# Altium schematic symbol library CapOther.SchLib: 25 symbols
Pins are listed as number, name and electrical type; pins without a type are passive.

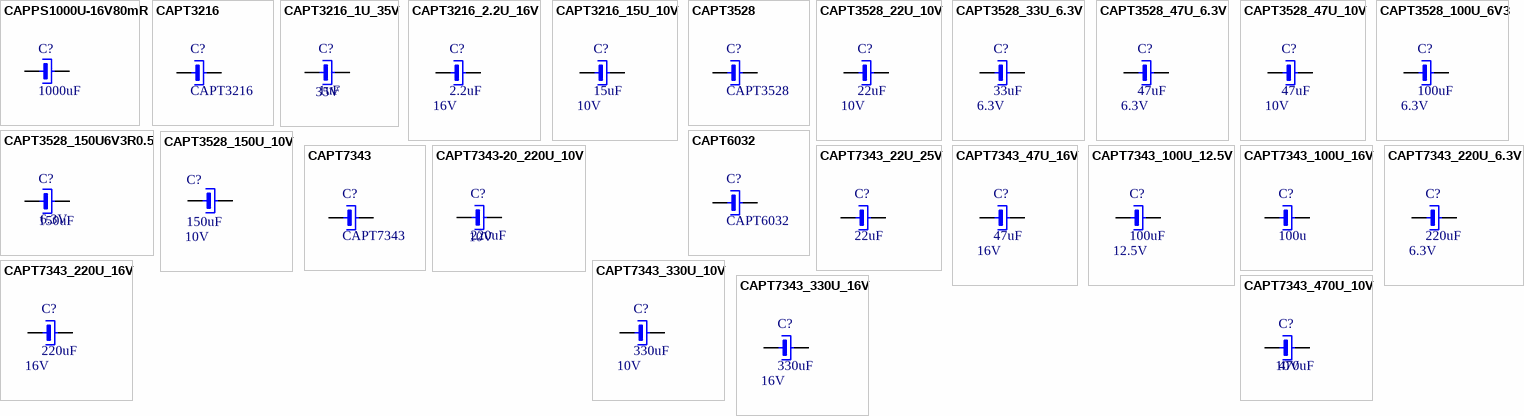
[diagram p0: symbols CAPPS1000U-16V80mR to CAPT7343_470U_10V]

## CAPPS1000U-16V80mR
designator C?, comment 1000uF
Capacitor electrolitic SMD 10x10x8mm 16V 80mR; Manufacturer: Panasonic; Manufacturer No: EEE-FT1C102AP; Tech: SMDR; Package: CAP pol SMT 10x10x12mm; Comment2: 16V 80mR; Supplier 1: Mouser; Supplier Part Number 1: 667-EEE-FT1C102AP; Supplier 2: Newark; Supplier Part Number 2: 73T9157; Supplier 3: Digi-Key; Supplier Part Number 3: P15087CT-ND
signal-integrity model Model Name (Model Description)
footprint CAPPS-D10X12.6 (Capacitor polarised SMD D10; 10.2x10.2x12.6mm)
pins: 1, 2

## CAPT3216
designator C?
Capacitor tantal smd 3216-18; Comment2: xxV; Sort: 220; Tech: SMDR; Package: Tant SMD A 3216-18; Price: 0
signal-integrity model Model Name (Model Description)
footprint CTC-A3216-18 (Capacitor tantal chip A - 3216, H=1.6mm)
pins: 1, 2

## CAPT3216_1U_35V
designator C?, comment 1uF  Voltage rating: 35V
Capacitor tantal smd 3216-18 35V 7.5Resr; Manufacturer: KEMET; Manufacturer No: T491A105K035AT; Tech: SMDR; Package: Tant SMD A 3216-18; Supplier 1: Digi-Key; Supplier Part Number 1: 399-8265-1-ND; Supplier 2: Mouser; Supplier Part Number 2: 80-T491A105K035; Supplier 3: Newark; Supplier Part Number 3: 57K1627
signal-integrity model Model Name (Model Description)
footprint CTC-A3216-18 (Capacitor tantal chip A - 3216, H=1.6mm)
pins: 1, 2

## CAPT3216_2.2U_16V
designator C?, comment 2.2uF  Voltage rating: 16V
Capacitor tantal smd 3216-18 16V 6.5Resr; Manufacturer: AVX; Manufacturer No: TAJA225K016R; Tech: SMDR; Package: Tant SMD A 3216-18; Supplier 1: Digi-Key; Supplier Part Number 1: 478-2353-1-ND; Supplier 2: Newark; Supplier Part Number 2: 57K1664; Supplier 3: Mouser; Supplier Part Number 3: 581-TAJA225K016
signal-integrity model Model Name (Model Description)
footprint CTC-A3216-18 (Capacitor tantal chip A - 3216, H=1.6mm)
pins: 1, 2

## CAPT3216_15U_10V
designator C?, comment 15uF  Voltage rating: 10V
Capacitor tantal smd 3216-18 10V 3.2Resr; Manufacturer: AVX; Manufacturer No: TAJA156K010R; Tech: SMDR; Package: Tant SMD A 3216-18; Supplier 1: Newark; Supplier Part Number 1: 57K1655; Supplier 2: Mouser; Supplier Part Number 2: 581-TAJA156K010R; Supplier 3: Digi-Key; Supplier Part Number 3: 478-1660-1-ND
signal-integrity model Model Name (Model Description)
footprint CTC-A3216-18 (Capacitor tantal chip A - 3216, H=1.6mm)
pins: 1, 2

## CAPT3528
designator C?
Capacitor tantal smd 3528-21; Comment2: xxV; Sort: 220; Tech: SMDR; Package: Tant SMD B 3528-21; Price: 0
signal-integrity model Model Name (Model Description)
footprint CTC-B3528-21 (Capacitor Tantal Chip B - 3528, H=1.9mm)
pins: 1, 2

## CAPT3528_22U_10V
designator C?, comment 22uF  Voltage rating: 10V
Capacitor tantal smd 3528-21 10V 0.3Resr; Manufacturer: AVX; Manufacturer No: TCJB226M010R0300; Tech: SMDR; Package: Tant SMD B 3528-21; Supplier 1: Newark; Supplier Part Number 1: 75M2909; Supplier 2: Mouser; Supplier Part Number 2: 581-TCJB226M10R300; Supplier 3: Digi-Key; Supplier Part Number 3: 478-3136-1-ND
signal-integrity model Model Name (Model Description)
footprint CTC-B3528-21 (Capacitor Tantal Chip B - 3528, H=1.9mm)
pins: 1, 2

## CAPT3528_33U_6.3V
designator C?, comment 33uF  Voltage rating: 6.3V
Capacitor tantal smd 3528-21 6.3V 40mResr; Manufacturer: Kemet; Manufacturer No: T520B336M006ATE040; Tech: SMDR; Package: Tant SMD B 3528-21; Supplier 1: Newark; Supplier Part Number 1: 94W4845; Supplier 2: Digi-Key; Supplier Part Number 2: 399-4017-1-ND; Supplier 3: Mouser; Supplier Part Number 3: 80-T520B336M6ATE40
signal-integrity model Model Name (Model Description)
footprint CTC-B3528-21
pins: 1, 2

## CAPT3528_47U_6.3V
designator C?, comment 47uF  Voltage rating: 6.3V
Capacitor tantal smd 3528-12 6.3V 70mResr; Manufacturer: Kemet; Manufacturer No: T520B476M006ATE070; Tech: SMDR; Package: Tant SMD B 3528-12; Supplier 1: Newark; Supplier Part Number 1: 12N2824; Supplier 2: Digi-Key; Supplier Part Number 2: 399-4024-1-ND; Supplier 3: Mouser; Supplier Part Number 3: 80-T520B476M006
signal-integrity model Model Name (Model Description)
footprint CTC-B3528-12 (Capacitor Tantal Chip B - 3528, H=1.2mm)
pins: 1, 2

## CAPT3528_47U_10V
designator C?, comment 47uF  Voltage rating: 10V
Capacitor tantal smd 3528-21 10V 1Resr; Manufacturer: Kemet; Manufacturer No: T491B476K010AT; Tech: SMDR; Package: Tant SMD B 3528-12; Supplier 1: Mouser; Supplier Part Number 1: 80-T491B476K010; Supplier 2: Digi-Key; Supplier Part Number 2: 399-9728-1-ND; Supplier 3: Newark; Supplier Part Number 3: 57K1819
signal-integrity model Model Name (Model Description)
footprint CTC-B3528-21 (Capacitor Tantal Chip B - 3528, H=1.9mm)
pins: 1, 2

## CAPT3528_100U_6V3
designator C?, comment 100uF  Voltage rating: 6.3V
Capacitor tantal smd 3528-21 6.3V 70mResr; Manufacturer: AVX; Manufacturer No: TCJB107M006R0070; Tech: SMDR; Package: Tant SMD B 3528-21; Supplier 1: Newark; Supplier Part Number 1: 59M9569; Supplier 2: Mouser; Supplier Part Number 2: 581-TCJB107M6R70; Supplier 3: Digi-Key; Supplier Part Number 3: 478-3130-1-ND
signal-integrity model Model Name (Model Description)
footprint CTC-B3528-21 (Capacitor Tantal Chip B - 3528, H=1.9mm)
pins: 1, 2

## CAPT3528_150U6V3R0.5
designator C?, comment 150uF  Voltage: 6.3V
Capacitor tantal smd 3528-21 6.3V 0.5R; Manufacturer: AVX; Manufacturer No: F930J157MBA; Comment2: 6.3V 0.5R  20%; Tech: SMDR; Package: Tant SMD B 3528-21; Supplier 1: Mouser; Supplier Part Number 1: 647-F930J157MBA; Supplier 2: Newark; Supplier Part Number 2: 54K5170; Supplier 3: Digi-Key; Supplier Part Number 3: 493-5741-1-ND
footprint CTC-B3528-21 (Capacitor Tantal Chip B - 3528, H=1.9mm)
pins: 1, 2

## CAPT3528_150U_10V
designator C?, comment 150uF  Voltage rating: 10V
Capacitor tantal smd 3528-21 10V 0.5Resr; Manufacturer: AVX; Manufacturer No: TLJB157M010R0500; Tech: SMDR; Package: Tant SMD B 3528-21; Supplier 1: Newark; Supplier Part Number 1: 59M9599; Supplier 2: Digi-Key; Supplier Part Number 2: 478-3349-1-ND; Supplier 3: Mouser; Supplier Part Number 3: 581-TLJB157M010R0500
signal-integrity model Model Name (Model Description)
footprint CTC-B3528-21 (Capacitor Tantal Chip B - 3528, H=1.9mm)
pins: 1, 2

## CAPT6032
designator C?
Capacitor tantal smd 6032-28; Tech: SMDR; Package: Tant SMD C 6032-28
signal-integrity model Model Name (Model Description)
footprint CTC-C6032-28 (Capacitor tantal chip C - 6032, H=2.8mm)
pins: 1, 2

## CAPT7343
designator C?
Capacitor tantal smd 7343-31; Tech: SMDR; Package: Tant SMD D 7343-31
signal-integrity model Model Name (Model Description)
footprint CTC-D7343-31 (Capacitor Tantal Chip D - 7343, H=2.8mm)
pins: 1, 2

## CAPT7343-20_220U_10V
designator C?, comment 220uF  Voltage rating: 10V
Capacitor tantal smd 7343-20 10V 25mResr; Manufacturer: AVX; Manufacturer No: TCJY227M010R0025; Tech: SMDR; Package: Tant SMD D 7343-20; Supplier 1: Mouser; Supplier Part Number 1: 581-TCJY227M010R0025; Supplier 2: Digi-Key; Supplier Part Number 2: 478-9504-1-ND
signal-integrity model Model Name (Model Description)
footprint CTC-D7343-20 (Capacitor Tantal Chip D - 7343, H=1.9mm)
pins: 1, 2

## CAPT7343_22U_25V
designator C?, comment 22uF
Capacitor tantal smd 7343-31 25V 0.1Resr; Manufacturer: AVX; Manufacturer No: TPSD226K025R0100; Tech: SMDR; Package: Tant SMD D 7343-31; Supplier 1: Mouser; Supplier Part Number 1: 581-TPSD226K025R0100; Supplier 2: Newark; Supplier Part Number 2: 65K3016; Supplier 3: Digi-Key; Supplier Part Number 3: 478-3331-1-ND; Voltage rating: 25V
signal-integrity model Model Name (Model Description)
footprint CTC-D7343-31 (Capacitor Tantal Chip D - 7343, H=2.8mm)
pins: 1, 2

## CAPT7343_47U_16V
designator C?, comment 47uF  Voltage: 16V
Capacitor tantal smd 7343-31 16V 0.8Resr; Manufacturer: AVX; Manufacturer No: TAJD476K016RNJ; Tech: SMDR; Package: Tant SMD D 7343-31; Supplier 1: Newark; Supplier Part Number 1: 60R6010; Supplier 2: Digi-Key; Supplier Part Number 2: 478-1739-1-ND; Supplier 3: Mouser; Supplier Part Number 3: 581-TAJD476K016
signal-integrity model Model Name (Model Description)
footprint CTC-D7343-31 (Capacitor Tantal Chip D - 7343, H=2.8mm)
pins: 1, 2

## CAPT7343_100U_12.5V
designator C?, comment 100uF  Voltage rating: 12.5V
Capacitor Aluminium Polymer, High Ripple, smd 7343-43 12.5V 12mResr; Manufacturer: Murata; Manufacturer No: ECASD91B107M012K00; Tech: SMDR; Package: Tant SMD D 7343-43; Supplier 1: Mouser; Supplier Part Number 1: 81-ECASD91B107M012K0; Supplier 2: Digi-Key; Supplier Part Number 2: 490-5480-6-ND
signal-integrity model Model Name (Model Description)
footprint CTC-D7343-43 (Capacitor Tantal Chip D - 7343, H=4.3mm)
pins: 1, 2

## CAPT7343_100U_16V
designator C?, comment 100u
Capacitor tantal smd 7343-43 16V 0.7Resr; Manufacturer: Kemet; Manufacturer No: T491X107K016AT; Tech: SMDR; Package: Tant SMD D 7343-43; Voltage rating: 16V; Supplier 1: Newark; Supplier Part Number 1: 57K2200; Supplier 2: Digi-Key; Supplier Part Number 2: 399-3811-1-ND; Supplier 3: Mouser; Supplier Part Number 3: 80-T491X107K016
signal-integrity model Model Name (Model Description)
footprint CTC-D7343-43 (Capacitor Tantal Chip D - 7343, H=4.3mm)
pins: 1, 2

## CAPT7343_220U_6.3V
designator C?, comment 220uF  Voltage rating: 6.3V
Capacitor Aluminium Polymer, High Ripple, smd 7343-43 6.3V 7mResr; Manufacturer: Panasonic; Manufacturer No: EEF-UE0J221LR; Tech: SMDR; Package: Tant SMD D 7343-43; Supplier 1: Mouser; Supplier Part Number 1: 667-EEF-UE0J221LR; Supplier 2: Digi-Key; Supplier Part Number 2: PCE4263CT-ND
signal-integrity model Model Name (Model Description)
footprint CTC-D7343-43 (Capacitor Tantal Chip D - 7343, H=4.3mm)
pins: 1, 2

## CAPT7343_220U_16V
designator C?, comment 220uF  Voltage rating: 16V
Capacitor tantal smd 7343-43 16V 40mResr; Manufacturer: AVX; Manufacturer No: TPME227K016R0025; Tech: SMDR; Package: Tant SMD D 7343-43; Supplier 1: Mouser; Supplier Part Number 1: 581-TPME227K016R0025; Supplier 2: Digi-Key; Supplier Part Number 2: 478-3302-1-ND; Supplier 3: Newark; Supplier Part Number 3: 59M9608
signal-integrity model Model Name (Model Description)
footprint CTC-D7343-43 (Capacitor Tantal Chip D - 7343, H=4.3mm)
pins: 1, 2

## CAPT7343_330U_10V
designator C?, comment 330uF  Voltage rating: 10V
Capacitor tantal smd 7343-43 10V 60mResr; Manufacturer: Kemet; Manufacturer No: T495X337K010ATE060; Tech: SMDR; Package: Tant SMD D 7343-43; Supplier 1: Newark; Supplier Part Number 1: 40K1306; Supplier 2: Digi-Key; Supplier Part Number 2: 399-3903-1-ND; Supplier 3: Mouser; Supplier Part Number 3: 80-T495X337K10ATE60
signal-integrity model Model Name (Model Description)
footprint CTC-D7343-43 (Capacitor Tantal Chip D - 7343, H=4.3mm)
pins: 1, 2

## CAPT7343_330U_16V
designator C?, comment 330uF  Voltage rating: 16V
Capacitor tantal smd 7343-43 16V 50mResr; Manufacturer: Kemet; Manufacturer No: T521X337M016ATE050; Tech: SMDR; Package: Tant SMD D 7343-43; Supplier 1: Mouser; Supplier Part Number 1: 80-T521X337M16ATE50; Supplier 2: Newark; Supplier Part Number 2: 94T3686; Supplier 3: Digi-Key; Supplier Part Number 3: 399-10365-1-ND
signal-integrity model Model Name (Model Description)
footprint CTC-D7343-43 (Capacitor Tantal Chip D - 7343, H=4.3mm)
pins: 1, 2

## CAPT7343_470U_10V
designator C?, comment 470uF  Voltage rating: 10V
Capacitor tantal smd 7343-43 10V 0.1Resr; Manufacturer: AVX; Manufacturer No: T495X477K010ATE100; Tech: SMDR; Package: Tant SMD D 7343-31; Supplier 1: Mouser; Supplier Part Number 1: 80-T495X477K10ATE100; Supplier 2: Newark; Supplier Part Number 2: 62X0026; Supplier 3: Digi-Key; Supplier Part Number 3: 399-10524-1-ND
signal-integrity model Model Name (Model Description)
footprint CTC-D7343-43 (Capacitor Tantal Chip D - 7343, H=4.3mm)
pins: 1, 2